# Altium footprint library WL-TIRC.PcbLib: 2 footprints
Each footprint in its own frame and in the unit in brackets; x right, y up, seen from the top. Pads: shape width x height; smd on the part's side, far side on the other; paste and mask are expansions set on the pad; w line width, h text height; cw(c..) or ccw(c..) is an arc to the next point about the centre after c.
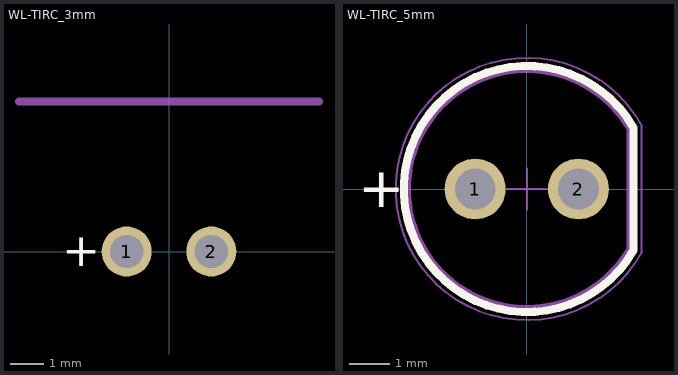
[diagram p0: the footprints below, top view; thin cyan lines are the x and y axes]

## WL-TIRC_3mm [mm]
height 5.3
pads (2):
  round 1.5 hole 1: 1(-1.27,0) 2(1.27,0)
Top Overlay:
  text "+" at -3.2,-0.45 h1
Notes:
  lines w0.254: -4.5,4.5 4.5,4.5
  text "board border" at -4.45,4.95 h0.8
3D body "светодиод в креплнии.STEP": height 1.6, standoff -9.4, extent -3,-1.73 3,6.73

## WL-TIRC_5mm [mm]
height 8.7
pads (2):
  round 1.5 hole 1: 1(-1.27,0) 2(1.27,0)
Top Overlay:
  lines w0.2: 2.626,-1.502 cw(c0,0) 2.625,1.503 2.625,-1.502
  text "+" at -4.15,-0.45 h1
Top Designator:
  text ".Designator" at -4.998,-0.333 h1
Top Component Outline:
  lines w0.1: 2.5,-1.47 cw(c0,0) 2.502,1.467 ; 2.5,-1.47 2.5,1.467
Top 3D Body:
  lines w0.1: 2.5,-1.47 cw(c0,0) 2.502,1.467 ; 2.5,-1.47 2.5,1.467
Top Courtyard:
  lines w0.05: -0.5,0 0.5,0 ; 0,-0.5 0,0.5 ; 2.825,-1.554 2.825,1.554 ; 2.826,-1.554 cw(c0,0) 2.826,1.554
3D body "154005xxF3590.stp": height 6.2, standoff -25, extent -2.9,-2.896 2.5,2.897